# Altium schematic symbol library 2020-11-21_05-20-24.SchLib: 2 symbols
Pins are listed as number, name and electrical type; pins without a type are passive.

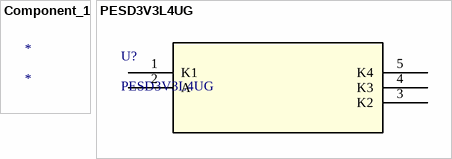
[diagram p0: symbols Component_1 to PESD3V3L4UG]

## Component_1
designator *

## PESD3V3L4UG
designator U?
No Description Available; Vendor: NXP; Built_By: EMA_UL_Team; SourceLibrary: NXP_2011-11-10; Manufacturer_Part_Number: PESD3V3L4UG; Copyright: Copyright (C) 2018 Accelerated Designs. All rights reserved; RefDes: RefDes; Type: DEV
footprint SOT353_NXP
pins: 1 K1, 2 A, 3 K2, 4 K3, 5 K4